# Altium footprint library EMI_FILTER_CAP.PcbLib: 13 footprints
Each footprint in its own frame and in the unit in brackets; x right, y up, seen from the top. Pads: shape width x height; smd on the part's side, far side on the other; paste and mask are expansions set on the pad; w line width, h text height; cw(c..) or ccw(c..) is an arc to the next point about the centre after c.
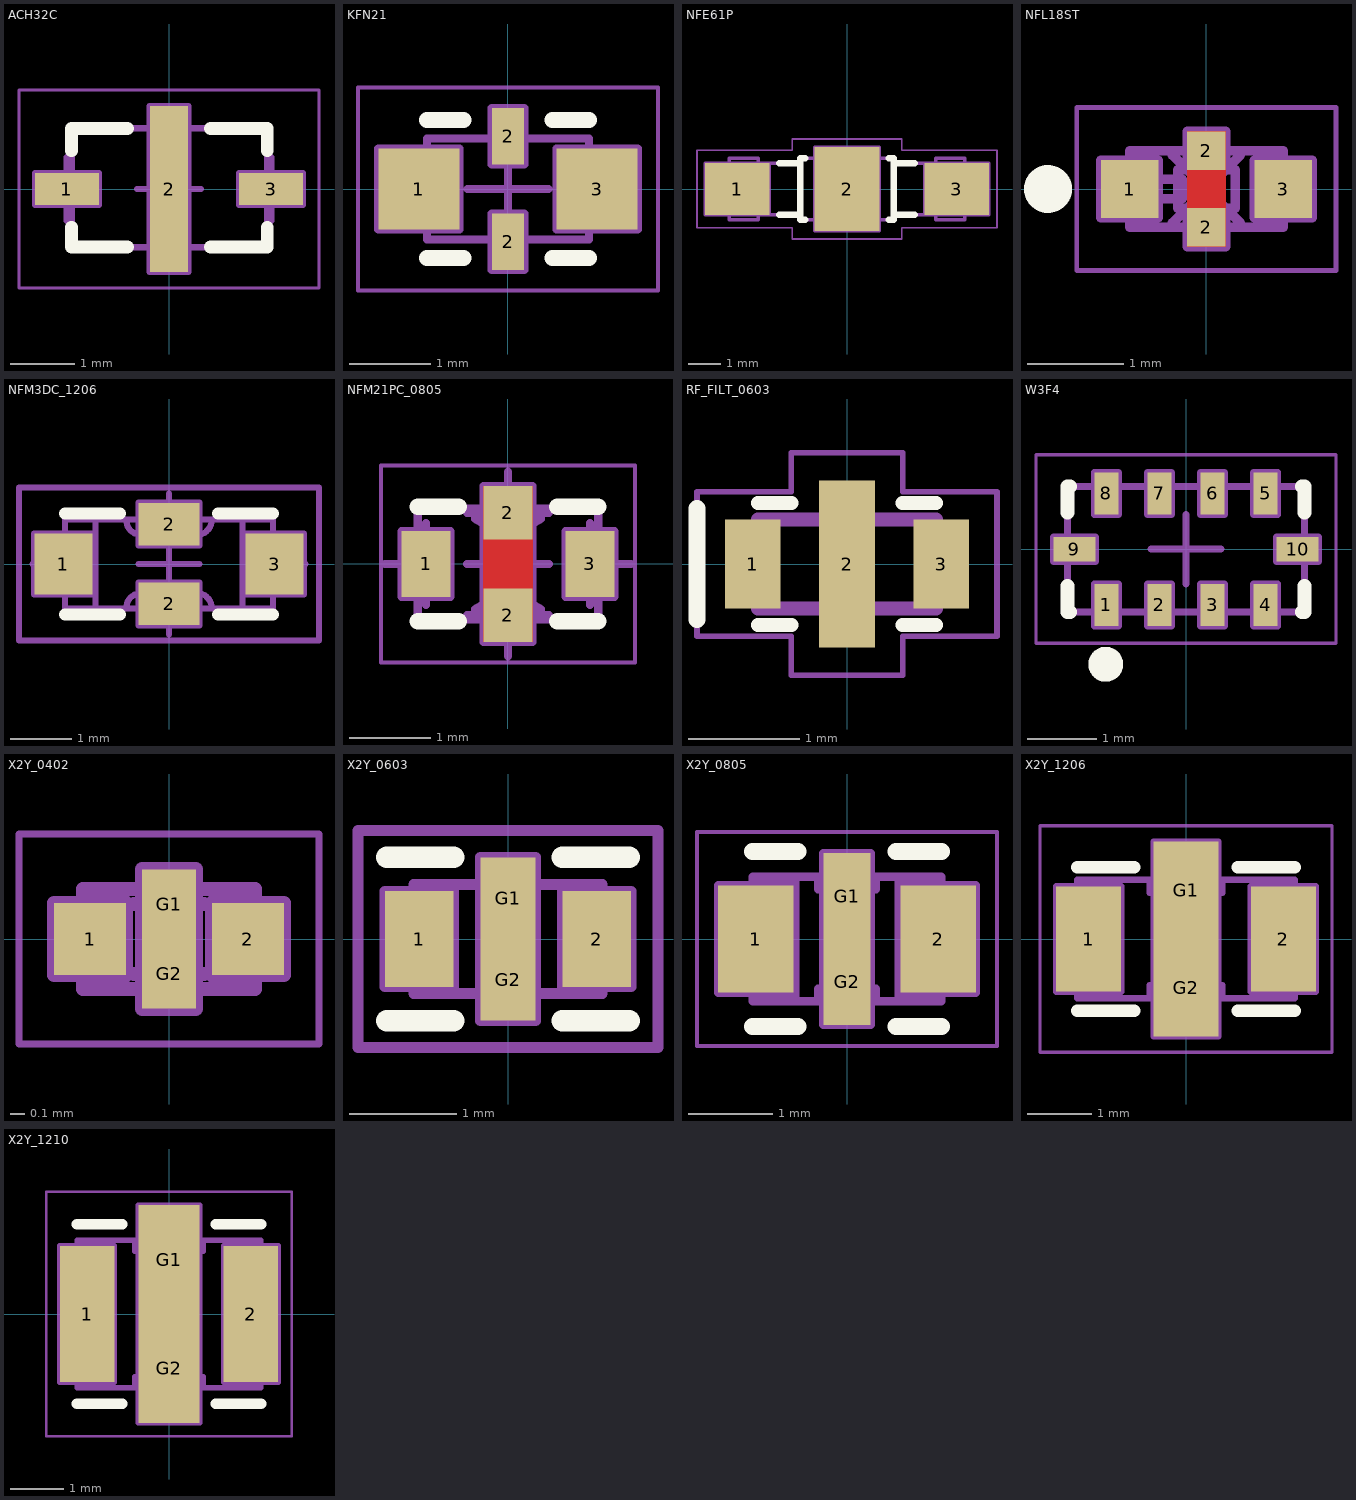
[diagram p0: the footprints below, top view; thin cyan lines are the x and y axes]

## ACH32C [mm] "EMI Filter, Body 3.2x1.6mm, TDK ACH32C Series"
height 2.3
pads (3):
  rect 1x0.5 smd paste-0.26 mask-0.26: 1(-1.6,0) 3(1.6,0)
  rect 0.6x2.6 smd: 2(0,0)
Top Overlay:
  lines w0.2: -1.526,-0.6 -1.526,-0.91 -0.65,-0.91 ; -1.526,0.6 -1.526,0.95 -0.65,0.95 ; 0.65,-0.91 1.54,-0.91 1.54,-0.6 ; 0.65,0.95 1.54,0.95 1.54,0.6
Mechanical 8:
  lines w0.1: -2.1,0 -1.6,0 ; -1.6,-0.5 -1.6,0 ; -1.6,0.5 -1.6,0 ; -0.5,0 0,0 ; 0,-0.5 0,0 ; 0,0.5 0,0 ; 0.5,0 0,0 ; 1.6,-0.5 1.6,0 ; 1.6,0.5 1.6,0 ; 2.1,0 1.6,0 ; -2.1,-0.25 -1.1,-0.25 -1.1,0.25 -2.1,0.25 -2.1,-0.25 ; -0.3,-1.3 -0.3,1.3 0.3,1.3 0.3,-1.3 -0.3,-1.3 ; 1.1,-0.25 2.1,-0.25 2.1,0.25 1.1,0.25 1.1,-0.25
Mechanical 14:
  lines w0.1: -1.526,-0.3 -1.605,-0.3 -1.605,0.3 -1.526,0.3 ; 1.54,-0.3 1.605,-0.3 1.605,0.3 1.54,0.3 ; -1.526,-0.91 -1.526,0.95 1.54,0.95 1.54,-0.91 -1.526,-0.91
Mechanical 15:
  lines w0.05: -2.35,-1.55 -2.35,1.55 2.35,1.55 2.35,-1.55 -2.35,-1.55
3D body "CAPC_TDK_ACH32C.stp": height 2.06, standoff 0, extent -1.605,-0.91 1.605,0.95

## KFN21 [mm] "EMIFIL Chip Capacitor, Body 2.00x1.25x0.8mm, KYOCERA KFN21 Serie"
height 0.95
pads (4):
  rect 1x1 smd: 1(-1.1,0) 3(1.1,0)
  rect 0.4x0.7 smd: 2(0,-0.65) 2(0,0.65)
Top Overlay:
  lines w0.2: -1,-0.85 -0.55,-0.85 ; -1,0.85 -0.55,0.85 ; 0.55,-0.85 1,-0.85 ; 0.55,0.85 1,0.85
Mechanical 8:
  lines w0.1: -0.5,0 0,0 ; 0,-0.5 0,0 ; 0,0.5 0,0 ; 0.5,0 0,0 ; -1.6,-0.5 -1.6,0.5 ; -1.6,-0.5 -0.6,-0.5 -0.6,0.5 -1.6,0.5 ; -1.6,-0.5 -1.1,0 -1.6,0.5 ; -0.2,-1 0.2,-1 ; -0.2,-1 -0.2,-0.3 0.2,-0.3 0.2,-1 ; -0.2,-1 0,-0.65 0.2,-1 ; -0.2,1 0.2,1 ; -0.2,1 -0.2,0.3 0.2,0.3 0.2,1 ; -0.2,1 0,0.65 0.2,1 ; 1.6,-0.5 1.6,0.5 ; 1.6,-0.5 0.6,-0.5 0.6,0.5 1.6,0.5 ; 1.6,-0.5 1.1,0 1.6,0.5
Mechanical 14:
  lines w0.1: -1,-0.625 -1,0.625 1,0.625 1,-0.625 -1,-0.625
Mechanical 15:
  lines w0.05: -1.85,-1.25 1.85,-1.25 1.85,1.25 -1.85,1.25 -1.85,-1.25
3D body "CAPC_KYOCERA_KFN21.stp": height 0.95, standoff 0, extent -1,-0.625 1,0.625

## NFE61P [mm] "EMI Filter, Body 6.8mm X 1.6mm, MURATA NFE61P Serie"
height 1.9
pads (3):
  rect 2x1.6 smd: 1(-3.4,0) 3(3.4,0)
  rect 2x2.6 smd: 2(0,0)
Top Overlay:
  lines w0.2: -2.1,-0.8 -1.45,-0.8 ; -2.1,0.8 -1.45,0.8 ; -1.3,-0.95 -1.45,-0.95 -1.45,0.95 -1.3,0.95 ; 1.3,-0.95 1.45,-0.95 1.45,0.95 1.3,0.95 ; 1.45,-0.8 2.1,-0.8 ; 1.45,0.8 2.1,0.8
Mechanical 8:
  lines w0.1: -3.9,0 -3.4,0 ; -3.4,-0.5 -3.4,0 ; -3.4,0.5 -3.4,0 ; -2.9,0 -3.4,0 ; -0.5,0 0,0 ; 0,-0.5 0,0 ; 0,0.5 0,0 ; 0.5,0 0,0 ; 2.9,0 3.4,0 ; 3.4,-0.5 3.4,0 ; 3.4,0.5 3.4,0 ; 3.9,0 3.4,0 ; -4.4,-0.8 -2.4,-0.8 -2.4,0.8 -4.4,0.8 -4.4,-0.8 ; -1,-1.3 1,-1.3 1,1.3 -1,1.3 -1,-1.3 ; 2.4,-0.8 4.4,-0.8 4.4,0.8 2.4,0.8 2.4,-0.8
Mechanical 14:
  lines w0.1: -2.75,-0.8 -1.45,-0.8 ; -2.75,0.8 -1.45,0.8 ; 1.45,-0.8 2.75,-0.8 ; 1.45,0.8 2.75,0.8 ; -3.65,-0.95 -3.65,0.95 -2.75,0.95 -2.75,-0.95 -3.65,-0.95 ; -1.45,-0.95 1.45,-0.95 1.45,0.95 -1.45,0.95 -1.45,-0.95 ; 2.75,-0.95 3.65,-0.95 3.65,0.95 2.75,0.95 2.75,-0.95
Mechanical 15:
  lines w0.05: -4.65,-1.2 -4.65,1.2 -1.7,1.2 -1.7,1.55 1.7,1.55 1.7,1.2 4.65,1.2 4.65,-1.2 1.7,-1.2 1.7,-1.55 -1.7,-1.55 -1.7,-1.2 -4.65,-1.2
3D body "CAPC_MURATA_NFE61P.stp": height 1.9, standoff 0, extent -3.65,-0.95 3.65,0.95

## NFL18ST [mm] "EMIFIL Chip Capacitor, Body 1.6x0.8mm, MURATA NFL18ST Series"
height 0.7
pads (4):
  rect 0.6x0.6 smd: 1(-0.8,0) 3(0.8,0)
  rect 0.4x0.4 smd: 2(0,-0.4) 2(0,0.4)
Top Layer:
  region: -0.2,0.6 -0.2,-0.6 0.2,-0.6 0.2,0.6
Top Overlay:
  circle w0.25: c-1.65,0 r0.125
Mechanical 8:
  lines w0.1: -0.354,-0.354 0,0 ; -0.354,0.354 0,0 ; 0.354,-0.354 0,0 ; 0.354,0.354 0,0 ; -1.1,-0.3 -0.8,0 -1.1,0.3 ; -1.1,-0.3 -1.1,0.3 ; -1.1,-0.3 -0.5,-0.3 -0.5,0.3 -1.1,0.3 ; -0.2,-0.6 0,-0.4 0.2,-0.6 ; -0.2,-0.6 -0.2,-0.2 0.2,-0.2 0.2,-0.6 ; -0.2,-0.6 0.2,-0.6 ; -0.2,0.6 0,0.4 0.2,0.6 ; -0.2,0.6 0.2,0.6 ; -0.2,0.6 -0.2,0.2 0.2,0.2 0.2,0.6 ; 1.1,-0.3 0.8,0 1.1,0.3 ; 1.1,-0.3 0.5,-0.3 0.5,0.3 1.1,0.3 ; 1.1,-0.3 1.1,0.3 ; -0.3,-0.2 -0.3,0.2 0.3,0.2 0.3,-0.2 -0.3,-0.2
Mechanical 14:
  lines w0.1: -0.8,-0.4 -0.8,0.4 0.8,0.4 0.8,-0.4 -0.8,-0.4 ; -0.575,-0.1 -0.25,-0.1 -0.25,0.1 -0.575,0.1 -0.575,-0.1
Mechanical 15:
  lines w0.05: -1.35,-0.85 -1.35,0.85 1.35,0.85 1.35,-0.85 -1.35,-0.85

## NFM3DC_1206 [mm] "EMIFIL Chip Capacitor, Body 3.2x1.25mm, MURATA NFM3DC Serie"
height 0.9
pads (4):
  rect 0.95x1 smd: 1(-1.725,0) 3(1.725,0)
  rect 1x0.7 smd: 2(0,-0.65) 2(0,0.65)
Top Overlay:
  lines w0.2: -1.7,-0.825 -0.8,-0.825 ; -1.7,0.825 -0.8,0.825 ; 0.8,-0.825 1.7,-0.825 ; 0.8,0.825 1.7,0.825
Mechanical 8:
  lines w0.1: -2.225,0 -1.725,0 ; -1.725,-0.5 -1.725,0 ; -1.725,0.5 -1.725,0 ; -1.225,0 -1.725,0 ; -0.5,-0.65 0,-0.65 ; -0.5,0 0,0 ; -0.5,0.65 0,0.65 ; 0,-1.15 0,-0.65 ; 0,-0.5 0,0 ; 0,0.5 0,0 ; 0,1.15 0,0.65 ; 0.5,-0.65 0,-0.65 ; 0.5,0 0,0 ; 0.5,0.65 0,0.65 ; 1.225,0 1.725,0 ; 1.725,-0.5 1.725,0 ; 1.725,0.5 1.725,0 ; 2.225,0 1.725,0 ; -0.5,0.3 0.5,0.3 ; -0.5,0.3 0.5,0.3 ; -0.5,0.3 -0.5,1 0.5,1 0.5,0.3 ; -2.2,-0.5 -1.25,-0.5 -1.25,0.5 -2.2,0.5 -2.2,-0.5 ; -0.5,-1 -0.5,-0.3 0.5,-0.3 0.5,-1 -0.5,-1 ; 1.25,-0.5 2.2,-0.5 2.2,0.5 1.25,0.5 1.25,-0.5
Mechanical 14:
  lines w0.1: -1.2,-0.725 -1.2,0.725 ; -0.7,-0.725 cw(c-0.45,-0.725) -0.45,-0.475 0.45,-0.475 cw(c0.45,-0.725) 0.7,-0.725 ; -0.7,0.725 ccw(c-0.45,0.725) -0.45,0.475 0.45,0.475 ccw(c0.45,0.725) 0.7,0.725 ; 1.2,-0.725 1.2,0.725 ; -1.7,-0.725 1.7,-0.725 1.7,0.725 -1.7,0.725 -1.7,-0.725
Mechanical 15:
  lines w0.1: -2.45,-1.25 -2.45,1.25 2.45,1.25 2.45,-1.25 -2.45,-1.25
3D body "CAPC_MURATA_NFM3DC_1206.stp": height 0.9, standoff 0, extent -1.7,-0.725 1.7,0.725

## NFM21PC_0805 [mm] "EMIFIL Chip Capacitor, Body 2.0x1.25mm, MURATA NFM21PC Serie"
height 0.95
pads (4):
  rect 0.6x0.8 smd: 1(-1,0) 3(1,0)
  rect 0.6x0.65 smd: 2(0,-0.625) 2(0,0.625)
Top Layer:
  region: -0.3,0.95 0.3,0.95 0.3,-0.95 -0.3,-0.95
Top Overlay:
  lines w0.2: -1.1,-0.7 -0.6,-0.7 ; -1.1,0.7 -0.6,0.7 ; 0.6,-0.7 1.1,-0.7 ; 0.6,0.7 1.1,0.7
Mechanical 8:
  lines w0.1: -1.5,0 -1,0 ; -1,-0.5 -1,0 ; -1,0.5 -1,0 ; -0.5,-0.625 0,-0.625 ; -0.5,0 0,0 ; -0.5,0.625 0,0.625 ; 0,-1.125 0,-0.625 ; 0,-0.5 0,0 ; 0,0.5 0,0 ; 0,1.125 0,0.625 ; 0.5,-0.625 0,-0.625 ; 0.5,0 0,0 ; 0.5,0.625 0,0.625 ; 1,-0.5 1,0 ; 1,0.5 1,0 ; 1.5,0 1,0 ; -0.7,-0.4 -1.3,-0.4 -1.3,0.4 -0.7,0.4 ; -0.7,-0.4 -0.7,0.4 ; -0.7,-0.4 -0.7,0.4 ; -0.3,-0.3 -0.3,-0.95 0.3,-0.95 0.3,-0.3 ; -0.3,-0.3 0.3,-0.3 ; -0.3,-0.3 0.3,-0.3 ; -0.3,-0.3 -0.3,0.3 ; -0.3,0.3 -0.3,0.95 0.3,0.95 0.3,0.3 ; -0.3,0.3 0.3,0.3 ; -0.3,0.3 0.3,0.3 ; 0.3,-0.3 0.3,0.3 ; 0.7,-0.4 0.7,0.4 ; 0.7,-0.4 1.3,-0.4 1.3,0.4 0.7,0.4 ; 0.7,-0.4 0.7,0.4
Mechanical 14:
  lines w0.1: -1.1,-0.675 1.1,-0.675 1.1,0.675 -1.1,0.675 -1.1,-0.675 ; -0.4,-0.675 -0.4,-0.55 cw(c0,-1.128) 0.4,-0.55 0.4,-0.675 -0.4,-0.675 ; -0.4,0.55 ccw(c0,1.128) 0.4,0.55 0.4,0.675 -0.4,0.675 -0.4,0.55
Mechanical 15:
  lines w0.05: -1.55,-1.2 -1.55,1.2 1.55,1.2 1.55,-1.2 -1.55,-1.2
3D body "CAPC_MURATA_NFM21PC_0805.stp": height 0.95, standoff 0, extent -1.1,-0.675 1.1,0.675

## RF_FILT_0603 [mm]
pads (3):
  rect 0.5x0.8 smd: 1(-0.85,0) 3(0.85,0)
  rect 0.5x1.5 smd: 2(0,0)
Top Overlay:
  lines w0.127: -0.8,-0.55 -0.5,-0.55 ; -0.8,0.55 -0.5,0.55 ; 0.5,-0.55 0.8,-0.55 ; 0.5,0.55 0.8,0.55
  lines w0.15: -1.35,-0.5 -1.35,0.5
Mechanical 13:
  lines w0.127: -0.8,-0.4 -0.8,0.4 0.8,0.4 0.8,-0.4 -0.8,-0.4
Mechanical 15:
  lines w0.05: -1.35,-0.65 -1.35,0.65 -0.5,0.65 -0.5,1 0.5,1 0.5,0.65 1.35,0.65 1.35,-0.65 0.5,-0.65 0.5,-1 -0.5,-1 -0.5,-0.65 -1.35,-0.65
3D body "rf_filter_0603.step": height 0.61, standoff 0.01, extent -0.801,-0.401 0.801,0.401

## W3F4 [mm] "Feedthru Filter, Body 3.25 x 1.6 x 1.22mm, AVX W2F4 Serie"
height 1.22
pads (10):
  rect 0.35x0.6 smd: 1(-1.14,-0.8) 2(-0.38,-0.8) 3(0.38,-0.8) 4(1.14,-0.8) 5(1.14,0.8) 6(0.38,0.8) 7(-0.38,0.8) 8(-1.14,0.8)
  rect 0.6x0.35 smd: 9(-1.6,0) 10(1.6,0)
Top Overlay:
  circle w0.25: c-1.15,-1.65 r0.125
  lines w0.2: -1.7,-0.525 -1.7,-0.9 -1.665,-0.9 ; -1.7,0.525 -1.7,0.9 -1.665,0.9 ; 1.665,-0.9 1.7,-0.9 1.7,-0.525 ; 1.665,0.9 1.7,0.9 1.7,0.525
Mechanical 8:
  lines w0.1: -0.5,0 0,0 ; 0,-0.5 0,0 ; 0,0.5 0,0 ; 0.5,0 0,0 ; -1.9,-0.175 -1.6,0 -1.9,0.175 ; -1.9,-0.175 -1.3,-0.175 -1.3,0.175 -1.9,0.175 ; -1.9,-0.175 -1.9,0.175 ; -1.315,-1.1 -1.14,-0.8 -0.965,-1.1 ; -1.315,-1.1 -1.315,-0.5 -0.965,-0.5 -0.965,-1.1 ; -1.315,-1.1 -0.965,-1.1 ; -1.315,1.1 -1.14,0.8 -0.965,1.1 ; -1.315,1.1 -1.315,0.5 -0.965,0.5 -0.965,1.1 ; -1.315,1.1 -0.965,1.1 ; -0.555,-1.1 -0.38,-0.8 -0.205,-1.1 ; -0.555,-1.1 -0.555,-0.5 -0.205,-0.5 -0.205,-1.1 ; -0.555,-1.1 -0.205,-1.1 ; -0.555,1.1 -0.38,0.8 -0.205,1.1 ; -0.555,1.1 -0.555,0.5 -0.205,0.5 -0.205,1.1 ; -0.555,1.1 -0.205,1.1 ; 0.205,-1.1 0.38,-0.8 0.555,-1.1 ; 0.205,-1.1 0.205,-0.5 0.555,-0.5 0.555,-1.1 ; 0.205,-1.1 0.555,-1.1 ; 0.205,1.1 0.38,0.8 0.555,1.1 ; 0.205,1.1 0.205,0.5 0.555,0.5 0.555,1.1 ; 0.205,1.1 0.555,1.1 ; 0.965,-1.1 1.14,-0.8 1.315,-1.1 ; 0.965,-1.1 0.965,-0.5 1.315,-0.5 1.315,-1.1 ; 0.965,-1.1 1.315,-1.1 ; 0.965,1.1 1.14,0.8 1.315,1.1 ; 0.965,1.1 0.965,0.5 1.315,0.5 1.315,1.1 ; 0.965,1.1 1.315,1.1 ; 1.9,-0.175 1.6,0 1.9,0.175 ; 1.9,-0.175 1.3,-0.175 1.3,0.175 1.9,0.175 ; 1.9,-0.175 1.9,0.175
Mechanical 14:
  lines w0.1: -1.7,-0.9 -1.7,0.9 1.7,0.9 1.7,-0.9 -1.7,-0.9
Mechanical 15:
  lines w0.05: -2.15,-1.35 2.15,-1.35 2.15,1.35 -2.15,1.35 -2.15,-1.35
3D body "CAPCAF_AVX_W3F4.stp": height 1.22, standoff 0, extent -1.645,-0.82 1.645,0.82

## X2Y_0402 [mm] "EMIFIL Chip Capacitor, Body 1.143x0.635mm, JOHANSON 0402 (X017) Case"
height 0.66
pads (4):
  rect 0.51x0.51 smd: 1(-0.56,0) 2(0.56,0)
  rect 0.38x0.495 smd: G1(0,0.248) G2(0,-0.248)
Mechanical 8:
  lines w0.1: -0.81,0 -0.56,0 ; -0.56,-0.25 -0.56,0 ; -0.56,0.25 -0.56,0 ; -0.31,0 -0.56,0 ; -0.25,-0.248 0,-0.248 ; -0.25,0.248 0,0.248 0.25,0.248 ; -0.19,0 0,0 ; -0.177,-0.177 0,0 ; -0.177,0.177 0,0 ; 0,-0.497 0,-0.248 ; 0,0.245 0,0.495 ; 0.177,-0.177 0,0 ; 0.177,0.177 0,0 ; 0.19,0 0,0 ; 0.25,-0.248 0,-0.248 ; 0.31,0 0.56,0 ; 0.56,-0.25 0.56,0 ; 0.56,0.25 0.56,0 ; 0.81,0 0.56,0 ; -0.815,-0.255 -0.305,-0.255 -0.305,0.255 -0.815,0.255 -0.815,-0.255 ; -0.19,-0.495 -0.19,0.495 0.19,0.495 0.19,-0.495 -0.19,-0.495 ; 0.305,-0.255 0.815,-0.255 0.815,0.255 0.305,0.255 0.305,-0.255
Mechanical 14:
  lines w0.1: -0.33,-0.356 -0.33,0.356 ; -0.191,-0.356 -0.191,-0.256 0.191,-0.256 0.191,-0.356 ; -0.191,0.356 -0.191,0.256 0.191,0.256 0.191,0.356 ; 0.33,-0.356 0.33,0.356 ; -0.61,-0.356 -0.61,0.356 ; -0.61,-0.356 -0.61,0.356 ; -0.61,-0.356 0.61,-0.356 ; -0.61,0.356 0.61,0.356 ; 0.61,-0.356 0.61,0.356 ; 0.61,-0.356 0.61,0.356
Mechanical 15:
  lines w0.05: -1.065,-0.745 1.065,-0.745 1.065,0.745 -1.065,0.745 -1.065,-0.745
3D body "CAPC_JOHANSON_X2Y_0402.stp": height 0.51, standoff 0, extent -0.609,-0.355 0.61,0.356

## X2Y_0603 [mm] "EMIFIL Chip Capacitor, Body 1.626x0.889mm, JOHANSON 0603 (X14) Case"
height 0.66
pads (4):
  rect 0.64x0.89 smd: 1(-0.825,0) 2(0.825,0)
  rect 0.51x0.76 smd: G1(0,0.38) G2(0,-0.38)
Top Overlay:
  lines w0.2: -1.127,-0.758 -0.505,-0.758 ; -1.127,0.758 -0.505,0.758 ; 0.505,-0.758 1.127,-0.758 ; 0.505,0.758 1.127,0.758
Mechanical 8:
  lines w0.1: -1.075,0 -0.825,0 ; -0.825,-0.25 -0.825,0 ; -0.825,0.25 -0.825,0 ; -0.575,0 -0.825,0 ; -0.25,0 0,0 ; 0,-0.25 0,0 ; 0,0.25 0,0 ; 0.25,0 0,0 ; 0.575,0 0.825,0 ; 0.825,-0.25 0.825,0 ; 0.825,0.25 0.825,0 ; 1.075,0 0.825,0 ; -1.145,-0.445 -0.505,-0.445 -0.505,0.445 -1.145,0.445 -1.145,-0.445 ; -0.255,-0.76 -0.255,0.76 0.255,0.76 0.255,-0.76 -0.255,-0.76 ; 0.505,-0.445 1.145,-0.445 1.145,0.445 0.505,0.445 0.505,-0.445
Mechanical 14:
  lines w0.1: -0.559,-0.508 -0.559,0.508 ; -0.229,-0.508 -0.229,-0.318 0.229,-0.318 0.229,-0.508 ; -0.229,0.508 -0.229,0.318 0.229,0.318 0.229,0.508 ; 0.559,-0.508 0.559,0.508 ; -0.877,-0.508 0.877,-0.508 0.877,0.508 -0.877,0.508 -0.877,-0.508
Mechanical 15:
  lines w0.1: -1.395,-1.01 -1.395,1.01 1.395,1.01 1.395,-1.01 -1.395,-1.01
3D body "CCAPC_JOHANSON_X2Y_0603.stp": height 0.66, standoff 0, extent -0.813,-0.444 0.813,0.445

## X2Y_0805 [mm] "EMIFIL Chip Capacitor, Body 2.032x1.27mm, JOHANSON 0805 (X15) Case"
height 1.016
pads (4):
  rect 0.89x1.27 smd: 1(-1.08,0) 2(1.08,0)
  rect 0.56x1.015 smd: G1(0,0.507) G2(0,-0.507)
Top Overlay:
  lines w0.2: -1.118,-1.037 -0.58,-1.037 ; -1.118,1.037 -0.58,1.037 ; 0.58,-1.037 1.118,-1.037 ; 0.58,1.037 1.118,1.037
Mechanical 8:
  lines w0.1: -1.33,0 -1.08,0 ; -1.08,-0.25 -1.08,0 ; -1.08,0.25 -1.08,0 ; -0.83,0 -1.08,0 ; -0.28,0 0.28,0 ; -0.25,-0.507 0,-0.507 ; -0.25,0 0,0 ; -0.25,0.507 0,0.507 ; 0,-0.758 0,-0.507 ; 0,-0.25 0,0 ; 0,0.25 0,0 ; 0,0.758 0,0.507 ; 0.25,-0.507 0,-0.507 ; 0.25,0 0,0 ; 0.25,0.507 0,0.507 ; 0.83,0 1.08,0 ; 1.08,-0.25 1.08,0 ; 1.08,0.25 1.08,0 ; 1.33,0 1.08,0 ; -1.525,-0.635 -0.635,-0.635 -0.635,0.635 -1.525,0.635 -1.525,-0.635 ; -0.28,-1.015 -0.28,1.015 0.28,1.015 0.28,-1.015 -0.28,-1.015 ; 0.635,-0.635 1.525,-0.635 1.525,0.635 0.635,0.635 0.635,-0.635
Mechanical 14:
  lines w0.1: -0.61,-0.737 -0.61,0.737 ; -0.343,-0.737 -0.343,-0.587 0.343,-0.587 0.343,-0.737 ; -0.343,0.737 -0.343,0.587 0.343,0.587 0.343,0.737 ; 0.61,-0.737 0.61,0.737 ; -1.118,-0.737 -1.118,0.737 ; -1.118,-0.737 -1.118,0.737 ; -1.118,-0.737 1.118,-0.737 ; -1.118,0.737 1.118,0.737 ; 1.118,-0.737 1.118,0.737 ; 1.118,-0.737 1.118,0.737
Mechanical 15:
  lines w0.05: -1.775,-1.265 -1.775,1.265 1.775,1.265 1.775,-1.265 -1.775,-1.265
3D body "CAPC_JOHANSON_X2Y_0805.stp": height 1.02, standoff 0, extent -1.117,-0.736 1.118,0.737

## X2Y_1206 [mm] "EMIFIL Chip Capacitor, Body 3.15x1.6mm, JOHANSON 1206 (X18) Case"
height 1.27
pads (4):
  rect 1.02x1.65 smd: 1(-1.525,0) 2(1.525,0)
  rect 1.02x1.525 smd: G1(0,0.763) G2(0,-0.763)
Top Overlay:
  lines w0.2: -1.702,-1.125 -0.81,-1.125 ; -1.702,1.125 -0.81,1.125 ; 0.81,-1.125 1.702,-1.125 ; 0.81,1.125 1.702,1.125
Mechanical 8:
  lines w0.1: -1.775,0 -1.525,0 ; -1.525,-0.25 -1.525,0 ; -1.525,0.25 -1.525,0 ; -1.275,0 -1.525,0 ; -0.51,0 0.51,0 ; -0.25,-0.763 0,-0.763 ; -0.25,0.763 0,0.763 ; -0.177,-0.177 0,0 ; -0.177,0.177 0,0 ; 0,-1.012 0,-0.763 ; 0,-0.513 0,-0.763 ; 0,0.513 0,0.763 ; 0,1.012 0,0.763 ; 0.177,-0.177 0,0 ; 0.177,0.177 0,0 ; 0.25,-0.763 0,-0.763 ; 0.25,0.763 0,0.763 ; 1.275,0 1.525,0 ; 1.525,-0.25 1.525,0 ; 1.525,0.25 1.525,0 ; 1.775,0 1.525,0 ; -2.035,-0.825 -2.035,0.825 -1.015,0.825 -1.015,-0.825 -2.035,-0.825 ; -0.51,-1.525 0.51,-1.525 0.51,1.525 -0.51,1.525 -0.51,-1.525 ; 1.015,-0.825 1.015,0.825 2.035,0.825 2.035,-0.825 1.015,-0.825
Mechanical 14:
  lines w0.1: -1.042,-0.927 -1.042,0.927 ; -0.572,-0.927 -0.572,-0.727 0.572,-0.727 0.572,-0.927 ; -0.572,0.927 -0.572,0.727 0.572,0.727 0.572,0.927 ; 1.042,-0.927 1.042,0.927 ; -1.702,-0.927 1.702,-0.927 ; -1.702,-0.927 -1.702,0.927 ; -1.702,-0.927 -1.702,0.927 ; -1.702,0.927 1.702,0.927 ; 1.702,-0.927 1.702,0.927 ; 1.702,-0.927 1.702,0.927
Mechanical 15:
  lines w0.05: -2.285,-1.775 -2.285,1.775 2.285,1.775 2.285,-1.775 -2.285,-1.775
3D body "CAPC_JOHANSON_X2Y_1206.stp": height 1.27, standoff 0, extent -1.702,-0.927 1.702,0.927

## X2Y_1210 [mm] "EMIFIL Chip Capacitor, Body 3.175x2.489mm, JOHANSON 1210 (X41) Case"
height 1.778
pads (4):
  rect 1.02x2.54 smd: 1(-1.525,0) 2(1.525,0)
  rect 1.14x2.03 smd: G1(0,1.015) G2(0,-1.015)
Top Overlay:
  lines w0.2: -1.714,-1.672 -0.87,-1.672 ; -1.714,1.672 -0.87,1.672 ; 0.87,-1.672 1.714,-1.672 ; 0.87,1.672 1.714,1.672
Mechanical 8:
  lines w0.1: -1.775,0 -1.525,0 ; -1.525,-0.25 -1.525,0 ; -1.525,0.25 -1.525,0 ; -1.275,0 -1.525,0 ; -0.57,0 0.57,0 ; -0.25,-1.015 0,-1.015 ; -0.25,1.015 0,1.015 ; -0.177,-0.177 0,0 ; -0.177,0.177 0,0 ; 0,-1.265 0,-1.015 ; 0,-0.765 0,-1.015 ; 0,0.765 0,1.015 ; 0,1.265 0,1.015 ; 0.177,-0.177 0,0 ; 0.177,0.177 0,0 ; 0.25,-1.015 0,-1.015 ; 0.25,1.015 0,1.015 ; 1.275,0 1.525,0 ; 1.525,-0.25 1.525,0 ; 1.525,0.25 1.525,0 ; 1.775,0 1.525,0 ; -2.035,-1.27 -2.035,1.27 -1.015,1.27 -1.015,-1.27 -2.035,-1.27 ; -0.57,-2.03 0.57,-2.03 0.57,2.03 -0.57,2.03 -0.57,-2.03 ; 1.015,-1.27 1.015,1.27 2.035,1.27 2.035,-1.27 1.015,-1.27
Mechanical 14:
  lines w0.1: -0.635,-1.372 -0.635,-1.172 0.635,-1.172 0.635,-1.372 ; -0.635,1.372 -0.635,1.172 0.635,1.172 0.635,1.372 ; -1.714,-1.372 1.714,-1.372 1.714,1.372 -1.714,1.372 -1.714,-1.372
Mechanical 15:
  lines w0.05: -2.285,-2.28 -2.285,2.28 2.285,2.28 2.285,-2.28 -2.285,-2.28
3D body "CAPC_JOHANSON_X2Y_1210.stp": height 1.78, standoff 0, extent -1.714,-1.371 1.715,1.372